# Altium footprint library SOD-123_TVS.PcbLib: 1 footprints
Each footprint in its own frame and in the unit in brackets; x right, y up, seen from the top. Pads: shape width x height; smd on the part's side, far side on the other; paste and mask are expansions set on the pad; w line width, h text height; cw(c..) or ccw(c..) is an arc to the next point about the centre after c.
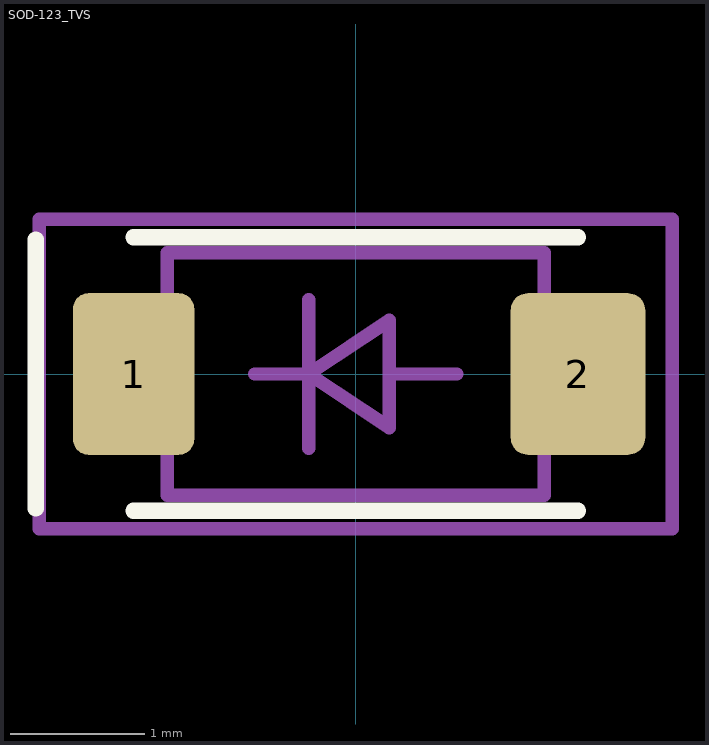
[diagram p0: the footprint, top view; thin cyan lines are the x and y axes]

## SOD-123_TVS [mm]
pads (2):
  rrect25% 0.9x1.2 smd: 1(-1.65,0)
  rrect25% 1x1.2 smd: 2(1.65,0)
Top Overlay:
  lines w0.12: -2.377,-1 -2.377,1 ; -1.651,-1.016 1.651,-1.016 ; -1.651,1.016 1.651,1.016
Mechanical 1:
  lines w0.1: -0.75,0 -0.35,0 ; -0.35,-0.55 -0.35,0 ; -0.35,0.55 -0.35,0 ; 0.25,0 0.75,0 ; -0.35,0 0.25,0.4 0.25,-0.4 -0.35,0 ; -2.35,-1.15 2.35,-1.15 2.35,1.15 -2.35,1.15 -2.35,-1.15 ; -1.4,-0.9 -1.4,0.9 1.4,0.9 1.4,-0.9 -1.4,-0.9
  text ".Designator" at 0,0.141 h0.75
Top Courtyard:
  text "+" at -0.333,-0.5 h1
3D body "Diode_Nexperia_PTVS7V0S1UR_115_eec.STEP": height 1.1, standoff 0, extent -1.75,-0.85 1.75,0.85